# Altium schematic symbol library LP38511-ADJ.SchLib: 1 symbol
Pins are listed as number, name and electrical type; pins without a type are passive.

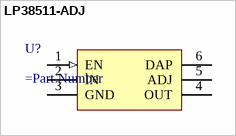
[diagram p0: symbol LP38511-ADJ]

## LP38511-ADJ
designator U?
=Description
pins: 1 EN (in), 2 IN (power), 3 GND (power), 4 OUT (power), 5 ADJ, 6 DAP